# Altium schematic symbol library LMV358IDGKR.SchLib: 1 symbol
Pins are listed as number, name and electrical type; pins without a type are passive.

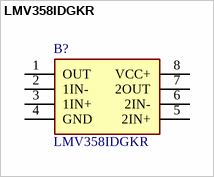
[diagram p0: symbol LMV358IDGKR]

## LMV358IDGKR
designator B?
OP Amp Dual GP R-R O/P 5.5V 8-Pin MSOP Texas Instruments LMV358IDGKR, Dual Op Amp, 1MHz CMOS, Rail to Rail, 3 V, 5 V, 8-Pin MSOP; Geometry.Height: 1.1mm; Mouser Part Number: 595-LMV358IDGKR; Mouser Price/Stock: https://www.mouser.co.uk/ProductDetail/Texas-Instruments/LMV358IDGKR?qs=rgxfVHSNRPXxzk3brtXqQw%3D%3D; Manufacturer_Name: Texas Instruments; Manufacturer_Part_Number: LMV358IDGKR; Datasheet Link: http://www.ti.com/lit/ds/symlink/lmv358.pdf
footprint SOP65P490X110-8N
pins: 1 OUT, 2 1IN-, 3 1IN+, 4 GND, 5 2IN+, 6 2IN-, 7 2OUT, 8 VCC+